# Altium footprint library Transistor.PcbLib: 1 footprints
Each footprint in its own frame and in the unit in brackets; x right, y up, seen from the top. Pads: shape width x height; smd on the part's side, far side on the other; paste and mask are expansions set on the pad; w line width, h text height; cw(c..) or ccw(c..) is an arc to the next point about the centre after c.
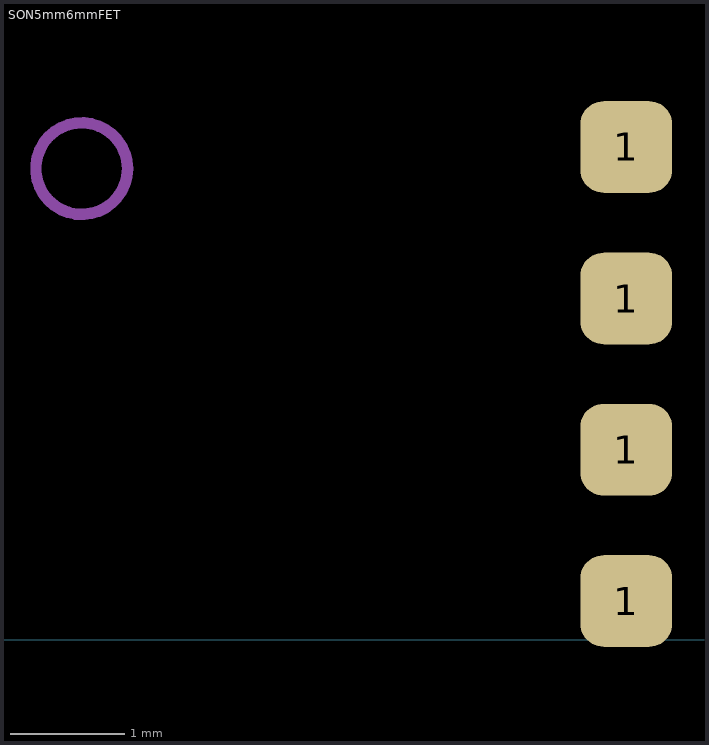
[diagram p0: the footprint, top view; thin cyan lines are the x and y axes]

## SON5mm6mmFET [mm]
pads (4):
  rrect50% 0.8x0.8 smd: 1(5.58,0.337) 1(5.58,1.657) 1(5.58,2.976) 1(5.58,4.297)
Mechanical 5:
  circle w0.1: c0.83,4.109 r0.4
  text ".Designator" at 1.524,2.032 h1.02
3D body: height 1.05, standoff 0, extent -0.02,-0.241 6.08,4.859